# EAGLE library part AD5541ARZ-REEL7 (library AD5541ARZ-REEL7)
16-Bit Digital-to-Analog Converters Check prices <https://pricing.snapeda.com/parts/AD5541ARZ/Analog%20Devices/view-part?ref=eda>
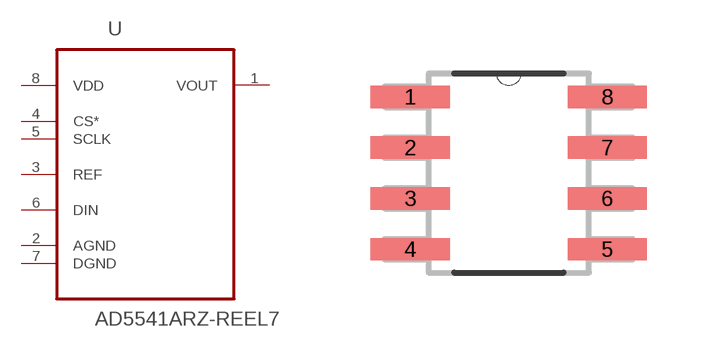
[diagram p0: symbol with the pads of SOIC127P600X175-8N; footprint SOIC127P600X175-8N]

Designator prefix U

## AD5541ARZ-REEL7 (Availability: Good; Description: 16 Bit Digital to Analog Converter 1 8-SOIC; MF: Analog Devices; MP: AD5541ARZ; Package: SOIC-8 Analog Devices; Price: None; Purchase-URL: https://pricing.snapeda.com/search/part/AD5541ARZ/?ref=eda)  [SOIC127P600X175-8N]
1  VOUT  out
2  AGND  pas
3  REF  in
4  CS*  in
5  SCLK  in
6  DIN  in
7  DGND  pas
8  VDD  pwr

## Footprint SOIC127P600X175-8N (pad centres in mm)
smd 1.981 x 0.559: 1 -2.464,1.905; 2 -2.464,0.635; 3 -2.464,-0.635; 4 -2.464,-1.905; 5 2.464,-1.905; 6 2.464,-0.635; 7 2.464,0.635; 8 2.464,1.905